# Altium footprint library TSSOP.PcbLib: 5 footprints
Each footprint in its own frame and in the unit in brackets; x right, y up, seen from the top. Pads: shape width x height; smd on the part's side, far side on the other; paste and mask are expansions set on the pad; w line width, h text height; cw(c..) or ccw(c..) is an arc to the next point about the centre after c.
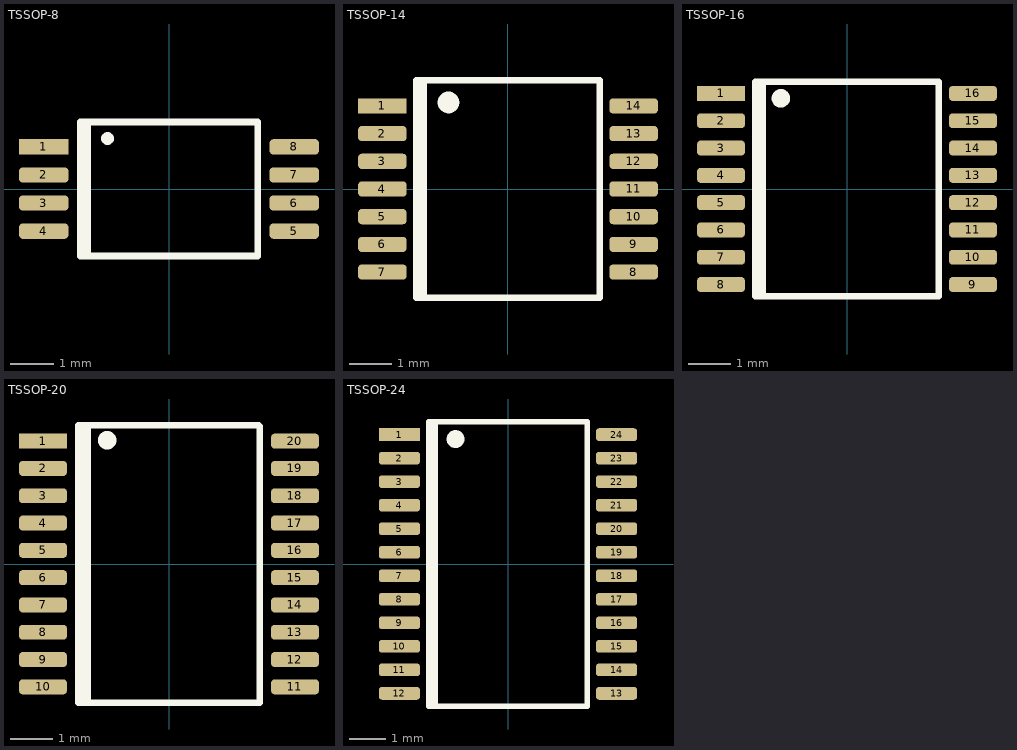
[diagram p0: the footprints below, top view; thin cyan lines are the x and y axes]

## TSSOP-8 [mil]
pads (8):
  rect 45x14 smd: 1(-114.17,38.39)
  rrect50% 45x14 smd: 2(-114.17,12.8) 3(-114.17,-12.8) 4(-114.17,-38.39) 5(114.17,-38.39) 6(114.17,-12.8) 7(114.17,12.8) 8(114.17,38.39)
Top Overlay:
  circle w6: c-56,46 r2.83
  rectangle: -81,-61.02 -71,61.02
  lines w6: -81,-61.02 81,-61.02 81,61.02 -81,61.02 -81,-61.02
3D body: height 43, standoff 0, extent -122.62,-62 124.62,56.11

## TSSOP-14 [mil]
pads (14):
  rect 45x14 smd: 1(-116.14,76.77)
  rrect50% 45x14 smd: 2(-116.14,51.18) 3(-116.14,25.59) 4(-116.14,0) 5(-116.14,-25.59) 6(-116.14,-51.18) 7(-116.14,-76.77) 8(116.14,-76.77) 9(116.14,-51.18) 10(116.14,-25.59) 11(116.14,0) 12(116.14,25.59) 13(116.14,51.18) 14(116.14,76.77)
Top Overlay:
  circle w10: c-55,80 r5
  rectangle: -86.77,-100 -75,100.39
  lines w6: -85,-100.39 85,-100.39 85,100.39 -85,100.39 -85,-100.39
3D body: height 47.24, standoff 0, extent -125.98,-100.39 125.99,100.4

## TSSOP-16 [mil]
pads (16):
  rect 45x14 smd: 1(-118.11,89.57)
  rrect50% 45x14 smd: 2(-118.11,63.98) 3(-118.11,38.39) 4(-118.11,12.8) 5(-118.11,-12.8) 6(-118.11,-38.39) 7(-118.11,-63.98) 8(-118.11,-89.57) 9(118.11,-89.57) 10(118.11,-63.98) 11(118.11,-38.39) 12(118.11,-12.8) 13(118.11,12.8) 14(118.11,38.39) 15(118.11,63.98) 16(118.11,89.57)
Top Overlay:
  circle w10: c-62,85 r3.61
  rectangle: -86,-100.39 -76,100.39
  lines w6: -86,-100.39 86,-100.39 86,100.39 -86,100.39 -86,-100.39
3D body: height 43.31, standoff 0, extent -125.98,-98.42 125.99,98.43

## TSSOP-20 [mil]
pads (20):
  rect 45x14 smd: 1(-118.11,115.16)
  rrect50% 45x14 smd: 2(-118.11,89.57) 3(-118.11,63.98) 4(-118.11,38.39) 5(-118.11,12.8) 6(-118.11,-12.8) 7(-118.11,-38.39) 8(-118.11,-63.98) 9(-118.11,-89.57) 10(-118.11,-115.16) 11(118.11,-115.16) 12(118.11,-89.57) 13(118.11,-63.98) 14(118.11,-38.39) 15(118.11,-12.8) 16(118.11,12.8) 17(118.11,38.39) 18(118.11,63.98) 19(118.11,89.57) 20(118.11,115.16)
Top Overlay:
  circle w10: c-58,116 r3.61
  rectangle: -85,-128 -73,130.92
  lines w6: -85.03,-129.92 85,-129.92 85,-63.96 85,65.96 85,129 84,129 84,129.92 -85,129.92 -85,-13.16 -85,-128.42 -85.03,-128.92
3D body: height 47.24, standoff 0, extent -128.93,-129.92 128.94,129.92

## TSSOP-24 [mil]
pads (24):
  rect 45x14 smd: 1(-118.11,140.75)
  rrect50% 45x14 smd: 2(-118.11,115.16) 3(-118.11,89.57) 4(-118.11,63.98) 5(-118.11,38.39) 6(-118.11,12.8) 7(-118.11,-12.8) 8(-118.11,-38.39) 9(-118.11,-63.98) 10(-118.11,-89.57) 11(-118.11,-115.16) 12(-118.11,-140.75) 13(118.11,-140.75) 14(118.11,-115.16) 15(118.11,-89.57) 16(118.11,-63.98) 17(118.11,-38.39) 18(118.11,-12.8) 19(118.11,12.8) 20(118.11,38.39) 21(118.11,63.98) 22(118.11,89.57) 23(118.11,115.16) 24(118.11,140.75)
Top Overlay:
  circle w6: c-57.16,136 r6.71
  circle w6: c-58.16,135 r3.16
  rectangle: -86,-156.02 -76,155
  lines w6: -86,-155 86,-155 86,155 -86,155 -86,-155
3D body: height 45.28, standoff -1.37, extent -126.11,-155.09 126.13,155.54